# Altium schematic symbol library vMemory.SCHLIB: 66 symbols
Pins are listed as number, name and electrical type; pins without a type are passive.

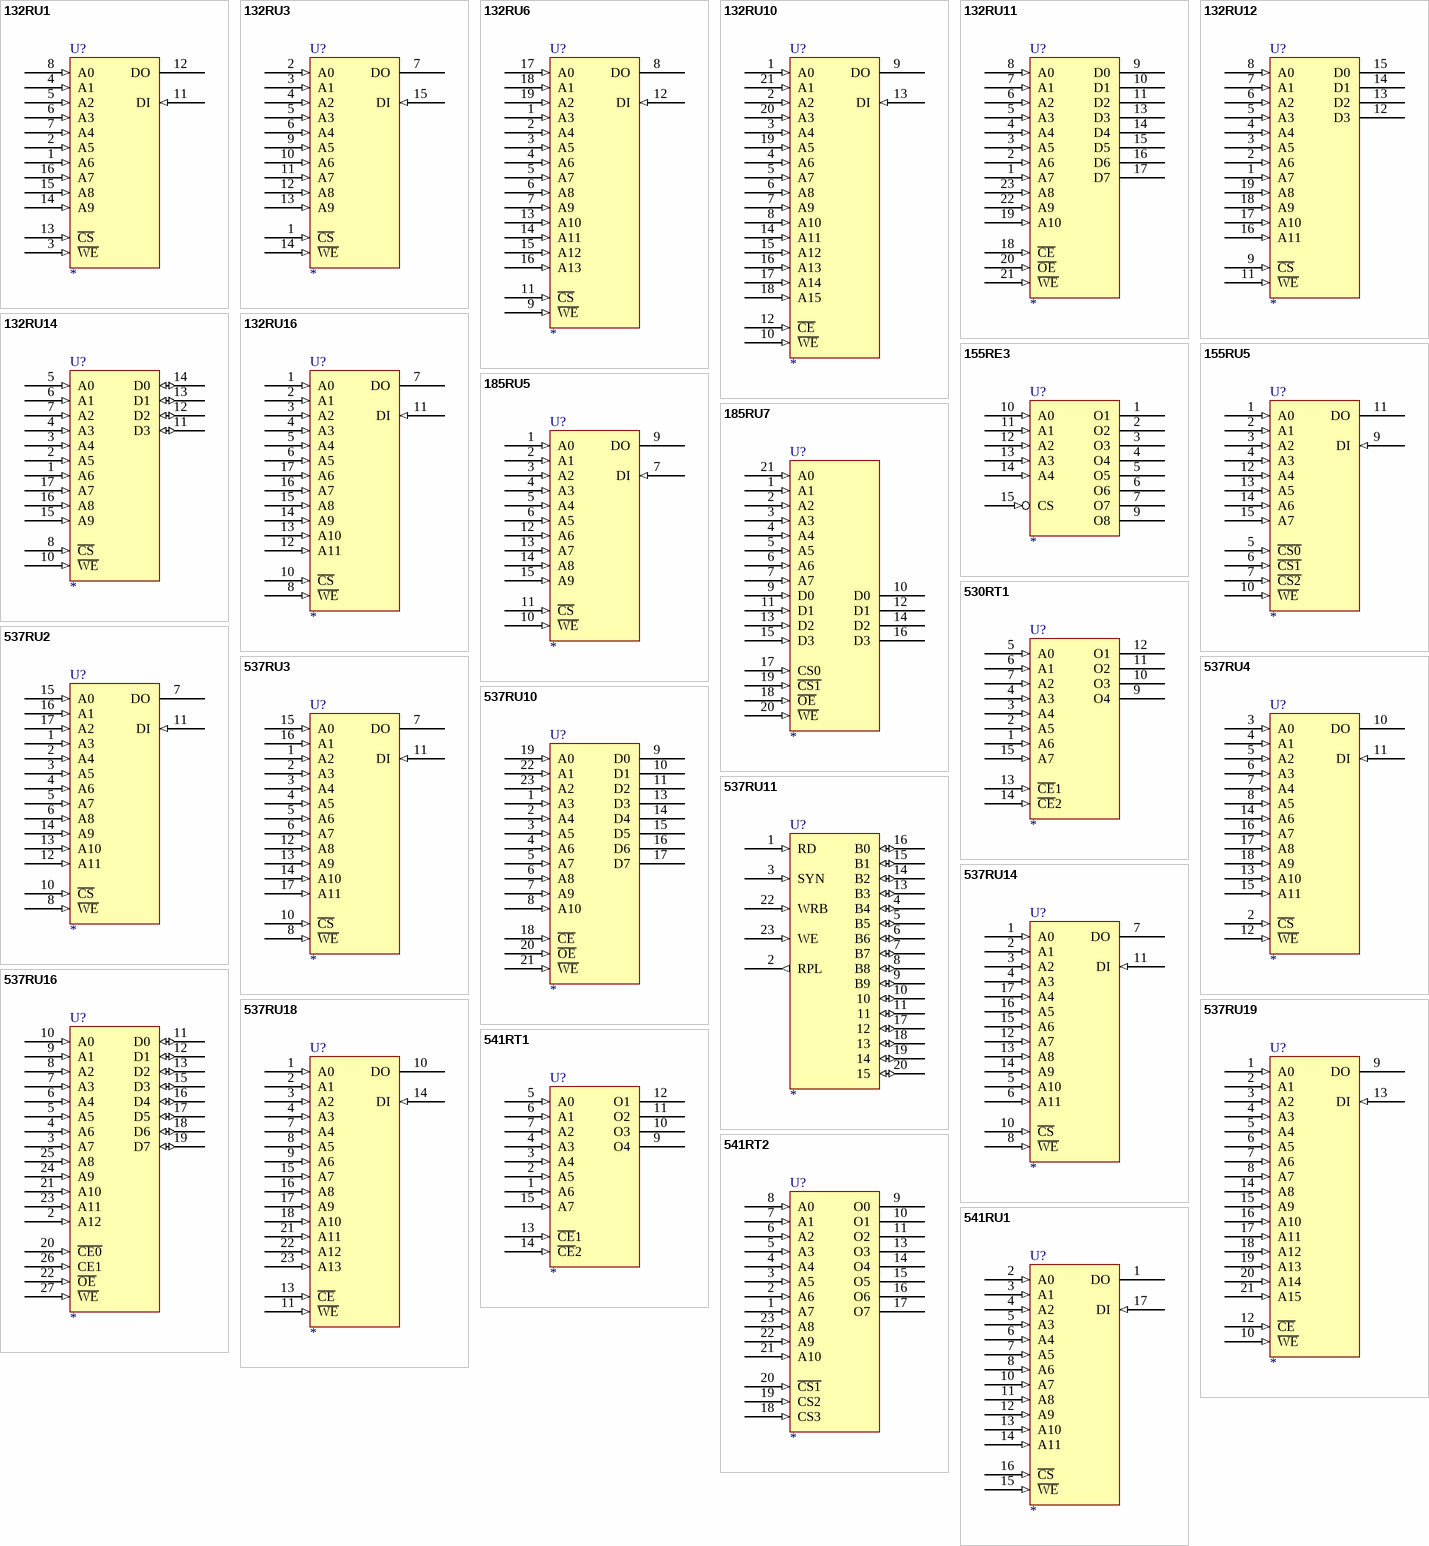
[diagram p0: symbols 132RU1 to 541RU1]

## 132RU1
designator U?
Text Field1: 60; Text Field2: 140
pins: 1 A6 (in), 2 A5 (in), 3 ~{WE} (in), 4 A1 (in), 5 A2 (in), 6 A3 (in), 7 A4 (in), 8 A0 (in), 9 GND (power) hidden to GND, 10 VCC (power) hidden to VCC, 11 DI (in), 12 DO (hiz), 13 ~{CS} (in), 14 A9 (in), 15 A8 (in), 16 A7 (in)

## 132RU3
designator U?
Text Field1: 60; Text Field2: 140
pins: 1 ~{CS} (in), 2 A0 (in), 3 A1 (in), 4 A2 (in), 5 A3 (in), 6 A4 (in), 7 DO (hiz), 8 GND (power) hidden to GND, 9 A5 (in), 10 A6 (in), 11 A7 (in), 12 A8 (in), 13 A9 (in), 14 ~{WE} (in), 15 DI (in), 16 VCC (power) hidden to VCC

## 132RU6
designator U?
Text Field1: 60; Text Field2: 180
pins: 1 A3 (in), 2 A4 (in), 3 A5 (in), 4 A6 (in), 5 A7 (in), 6 A8 (in), 7 A9 (in), 8 DO (hiz), 9 ~{WE} (in), 10 GND (power) hidden to GND, 11 ~{CS} (in), 12 DI (in), 13 A10 (in), 14 A11 (in), 15 A12 (in), 16 A13 (in), 17 A0 (in), 18 A1 (in), 19 A2 (in), 20 VCC (power) hidden to VCC

## 132RU10
designator U?
Text Field1: 60; Text Field2: 200
pins: 1 A0 (in), 2 A2 (in), 3 A4 (in), 4 A6 (in), 5 A7 (in), 6 A8 (in), 7 A9 (in), 8 A10 (in), 9 DO (hiz), 10 ~{WE} (in), 11 GND (power) hidden to GND, 12 ~{CE} (in), 13 DI (in), 14 A11 (in), 15 A12 (in), 16 A13 (in), 17 A14 (in), 18 A15 (in), 19 A5 (in), 20 A3 (in), 21 A1 (in), 22 VCC (power) hidden to VCC

## 132RU11
designator U?
Text Field1: 60; Text Field2: 160
pins: 1 A7 (in), 2 A6 (in), 3 A5 (in), 4 A4 (in), 5 A3 (in), 6 A2 (in), 7 A1 (in), 8 A0 (in), 9 D0 (hiz), 10 D1 (hiz), 11 D2 (hiz), 12 GND (power) hidden to GND, 13 D3 (hiz), 14 D4 (hiz), 15 D5 (hiz), 16 D6 (hiz), 17 D7 (hiz), 18 ~{CE} (in), 19 A10 (in), 20 ~{OE} (in), 21 ~{WE} (in), 22 A9 (in), 23 A8 (in), 24 VCC (power) hidden to VCC

## 132RU12
designator U?
Text Field1: 60; Text Field2: 160
pins: 1 A7 (in), 2 A6 (in), 3 A5 (in), 4 A4 (in), 5 A3 (in), 6 A2 (in), 7 A1 (in), 8 A0 (in), 9 ~{CS} (in), 10 GND (power) hidden to GND, 11 ~{WE} (in), 12 D3 (hiz), 13 D2 (hiz), 14 D1 (hiz), 15 D0 (hiz), 16 A11 (in), 17 A10 (in), 18 A9 (in), 19 A8 (in), 20 VCC (power) hidden to VCC

## 132RU14
designator U?
Text Field1: 60; Text Field2: 140
pins: 1 A6 (in), 2 A5 (in), 3 A4 (in), 4 A3 (in), 5 A0 (in), 6 A1 (in), 7 A2 (in), 8 ~{CS} (in), 9 GND (power) hidden to GND, 10 ~{WE} (in), 11 D3 (io), 12 D2 (io), 13 D1 (io), 14 D0 (io), 15 A9 (in), 16 A8 (in), 17 A7 (in), 18 VCC (power) hidden to VCC

## 132RU16
designator U?
Text Field1: 60; Text Field2: 160
pins: 1 A0 (in), 2 A1 (in), 3 A2 (in), 4 A3 (in), 5 A4 (in), 6 A5 (in), 7 DO (hiz), 8 ~{WE} (in), 9 GND (power) hidden to GND, 10 ~{CS} (in), 11 DI (in), 12 A11 (in), 13 A10 (in), 14 A9 (in), 15 A8 (in), 16 A7 (in), 17 A6 (in), 18 VCC (power) hidden to VCC

## 155RE3
designator U?
Text Field1: 60; Text Field2: 90
pins: 1 O1 (oc), 2 O2 (oc), 3 O3 (oc), 4 O4 (oc), 5 O5 (oc), 6 O6 (oc), 7 O7 (oc), 8 GND (power) hidden to GND, 9 O8 (oc), 10 A0 (in), 11 A1 (in), 12 A2 (in), 13 A3 (in), 14 A4 (in), 15 CS (in), 16 +5V (power) hidden to +5V

## 155RU5
designator U?
Text Field1: 60; Text Field2: 140
pins: 1 A0 (in), 2 A1 (in), 3 A2 (in), 4 A3 (in), 5 ~{CS0} (in), 6 ~{CS1} (in), 7 ~{CS2} (in), 8 GND (power) hidden to GND, 9 DI (in), 10 ~{WE} (in), 11 DO (oc), 12 A4 (in), 13 A5 (in), 14 A6 (in), 15 A7 (in), 16 VCC (power) hidden to VCC

## 185RU5
designator U?
Text Field1: 60; Text Field2: 140
pins: 1 A0 (in), 2 A1 (in), 3 A2 (in), 4 A3 (in), 5 A4 (in), 6 A5 (in), 7 DI (in), 8 GND (power) hidden to GND, 9 DO (oc), 10 ~{WE} (in), 11 ~{CS} (in), 12 A6 (in), 13 A7 (in), 14 A8 (in), 15 A9 (in), 16 VCC (power) hidden to VCC

## 185RU7
designator U?
Text Field1: 60; Text Field2: 180
pins: 1 A1 (in), 2 A2 (in), 3 A3 (in), 4 A4 (in), 5 A5 (in), 6 A6 (in), 7 A7 (in), 8 GND (power) hidden to GND, 9 D0 (in), 10 D0 (hiz), 11 D1 (in), 12 D1 (hiz), 13 D2 (in), 14 D2 (hiz), 15 D3 (in), 16 D3 (hiz), 17 CS0 (in), 18 ~{OE} (in), 19 ~{CS1} (in), 20 ~{WE} (in), 21 A0 (in), 22 VCC (power) hidden to VCC

## 530RT1
designator U?
Text Field1: 60; Text Field2: 120
pins: 1 A6 (in), 2 A5 (in), 3 A4 (in), 4 A3 (in), 5 A0 (in), 6 A1 (in), 7 A2 (in), 8 GND (power) hidden to GND, 9 O4 (oc), 10 O3 (oc), 11 O2 (oc), 12 O1 (oc), 13 ~{CE}1 (in), 14 ~{CE}2 (in), 15 A7 (in), 16 VCC (power) hidden to VCC

## 537RU2
designator U?
Text Field1: 60; Text Field2: 160
pins: 1 A3 (in), 2 A4 (in), 3 A5 (in), 4 A6 (in), 5 A7 (in), 6 A8 (in), 7 DO (hiz), 8 ~{WE} (in), 9 GND (power) hidden to GND, 10 ~{CS} (in), 11 DI (in), 12 A11 (in), 13 A10 (in), 14 A9 (in), 15 A0 (in), 16 A1 (in), 17 A2 (in), 18 +5V (power) hidden to +5V

## 537RU3
designator U?
Text Field1: 60; Text Field2: 160
pins: 1 A2 (in), 2 A3 (in), 3 A4 (in), 4 A5 (in), 5 A6 (in), 6 A7 (in), 7 DO (hiz), 8 ~{WE} (in), 9 GND (power) hidden to GND, 10 ~{CS} (in), 11 DI (in), 12 A8 (in), 13 A9 (in), 14 A10 (in), 15 A0 (in), 16 A1 (in), 17 A11 (in), 18 +5V (power) hidden to +5V

## 537RU4
designator U?
Text Field1: 60; Text Field2: 160
pins: 1 GND (power) hidden to GND, 2 ~{CS} (in), 3 A0 (in), 4 A1 (in), 5 A2 (in), 6 A3 (in), 7 A4 (in), 8 A5 (in), 9 +5V (power) hidden to +5V, 10 DO (hiz), 11 DI (in), 12 ~{WE} (in), 13 A10 (in), 14 A6 (in), 15 A11 (in), 16 A7 (in), 17 A8 (in), 18 A9 (in)

## 537RU10
designator U?
Text Field1: 60; Text Field2: 160
pins: 1 A3 (in), 2 A4 (in), 3 A5 (in), 4 A6 (in), 5 A7 (in), 6 A8 (in), 7 A9 (in), 8 A10 (in), 9 D0 (hiz), 10 D1 (hiz), 11 D2 (hiz), 12 GND (power) hidden to GND, 13 D3 (hiz), 14 D4 (hiz), 15 D5 (hiz), 16 D6 (hiz), 17 D7 (hiz), 18 ~{CE} (in), 19 A0 (in), 20 ~{OE} (in), 21 ~{WE} (in), 22 A1 (in), 23 A2 (in), 24 +5V (power) hidden to +5V

## 537RU11
designator U?
Text Field1: 60; Text Field2: 170
pins: 1 RD (in), 2 RPL (out), 3 SYN (in), 4 B4 (io), 5 B5 (io), 6 B6 (io), 7 B7 (io), 8 B8 (io), 9 B9 (io), 10 (io), 11 (io), 12 GND (power) hidden to GND, 13 B3 (io), 14 B2 (io), 15 B1 (io), 16 B0 (io), 17 12 (io), 18 13 (io), 19 14 (io), 20 15 (io), 22 WRB (in), 23 WE (in), 24 +5V (power) hidden to +5V

## 537RU14
designator U?
Text Field1: 60; Text Field2: 160
pins: 1 A0 (in), 2 A1 (in), 3 A2 (in), 4 A3 (in), 5 A10 (in), 6 A11 (in), 7 DO (hiz), 8 ~{WE} (in), 9 GND (power) hidden to GND, 10 ~{CS} (in), 11 DI (in), 12 A7 (in), 13 A8 (in), 14 A9 (in), 15 A6 (in), 16 A5 (in), 17 A4 (in), 18 VCC (power) hidden to VCC

## 537RU16
designator U?
Text Field1: 60; Text Field2: 190
pins: 2 A12 (in), 3 A7 (in), 4 A6 (in), 5 A5 (in), 6 A4 (in), 7 A3 (in), 8 A2 (in), 9 A1 (in), 10 A0 (in), 11 D0 (io), 12 D1 (io), 13 D2 (io), 14 GND (power) hidden to GND, 15 D3 (io), 16 D4 (io), 17 D5 (io), 18 D6 (io), 19 D7 (io), 20 ~{CE0} (in), 21 A10 (in), 22 ~{OE} (in), 23 A11 (in), 24 A9 (in), 25 A8 (in), 26 CE1 (in), 27 ~{WE} (in), 28 VCC (power) hidden to VCC

## 537RU18
designator U?
Text Field1: 60; Text Field2: 180
pins: 1 A0 (in), 2 A1 (in), 3 A2 (in), 4 A3 (in), 7 A4 (in), 8 A5 (in), 9 A6 (in), 10 DO (hiz), 11 ~{WE} (in), 12 GND (power) hidden to GND, 13 ~{CE} (in), 14 DI (in), 15 A7 (in), 16 A8 (in), 17 A9 (in), 18 A10 (in), 21 A11 (in), 22 A12 (in), 23 A13 (in), 24 VCC (power) hidden to VCC

## 537RU19
designator U?
Text Field1: 60; Text Field2: 200
pins: 1 A0 (in), 2 A1 (in), 3 A2 (in), 4 A3 (in), 5 A4 (in), 6 A5 (in), 7 A6 (in), 8 A7 (in), 9 DO (hiz), 10 ~{WE} (in), 11 GND (power) hidden to GND, 12 ~{CE} (in), 13 DI (in), 14 A8 (in), 15 A9 (in), 16 A10 (in), 17 A11 (in), 18 A12 (in), 19 A13 (in), 20 A14 (in), 21 A15 (in), 22 VCC (power) hidden to VCC

## 541RT1
designator U?
Text Field1: 60; Text Field2: 120
pins: 1 A6 (in), 2 A5 (in), 3 A4 (in), 4 A3 (in), 5 A0 (in), 6 A1 (in), 7 A2 (in), 8 GND (power) hidden to GND, 9 O4 (oc), 10 O3 (oc), 11 O2 (oc), 12 O1 (oc), 13 ~{CE}1 (in), 14 ~{CE}2 (in), 15 A7 (in), 16 VCC (power) hidden to VCC

## 541RT2
designator U?
Text Field1: 60; Text Field2: 160
pins: 1 A7 (in), 2 A6 (in), 3 A5 (in), 4 A4 (in), 5 A3 (in), 6 A2 (in), 7 A1 (in), 8 A0 (in), 9 O0 (hiz), 10 O1 (hiz), 11 O2 (hiz), 12 GND (power) hidden to GND, 13 O3 (hiz), 14 O4 (hiz), 15 O5 (hiz), 16 O6 (hiz), 17 O7 (hiz), 18 CS3 (in), 19 CS2 (in), 20 ~{CS1} (in), 21 A10 (in), 22 A9 (in), 23 A8 (in), 24 VCC (power) hidden to VCC

## 541RU1
designator U?
Text Field1: 60; Text Field2: 160
pins: 1 DO (hiz), 2 A0 (in), 3 A1 (in), 4 A2 (in), 5 A3 (in), 6 A4 (in), 7 A5 (in), 8 A6 (in), 9 GND (power) hidden to GND, 10 A7 (in), 11 A8 (in), 12 A9 (in), 13 A10 (in), 14 A11 (in), 15 ~{WE} (in), 16 ~{CS} (in), 17 DI (in), 18 VCC (power) hidden to VCC

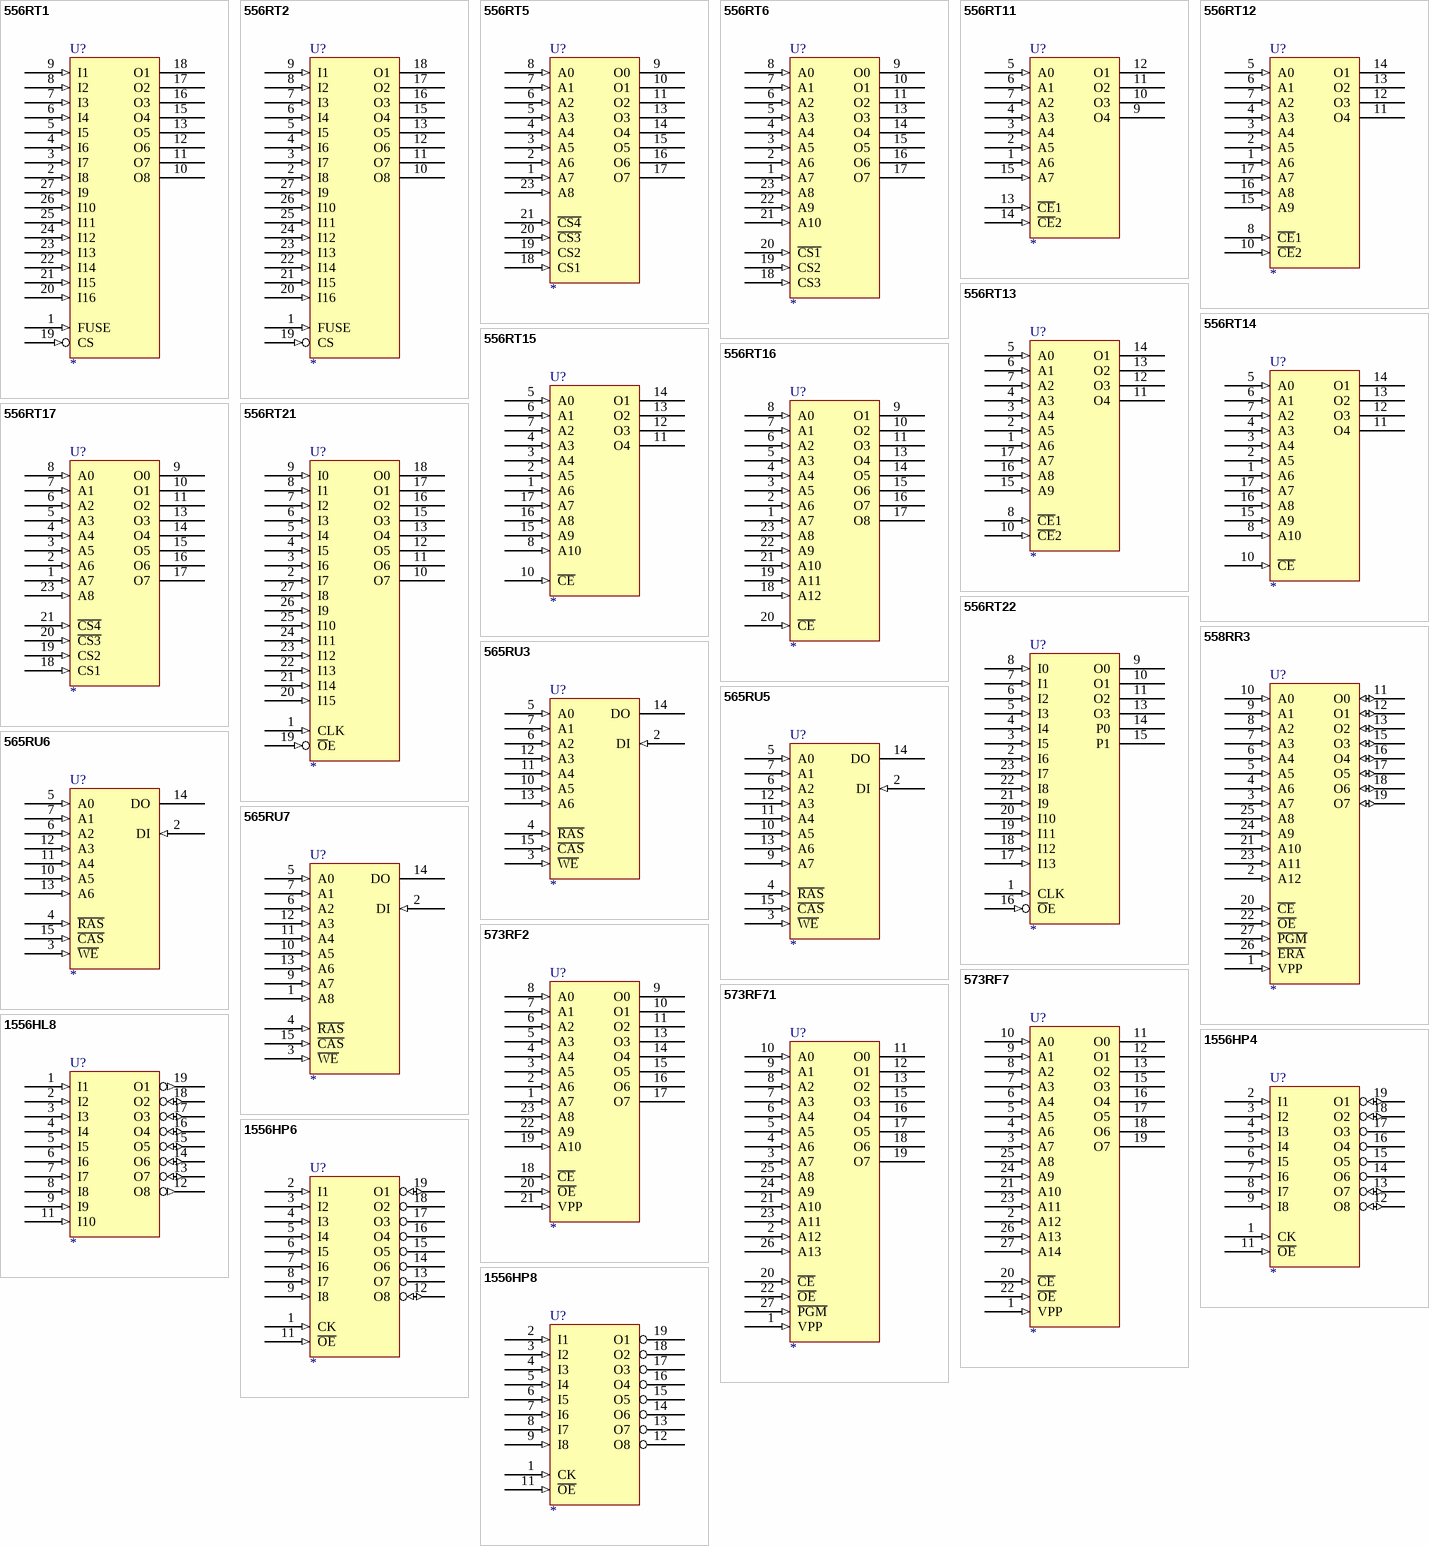
[diagram p1: symbols 556RT1 to 1556HP8]

## 556RT1
designator U?
Text Field1: 60; Text Field2: 200
pins: 1 FUSE (in), 2 I8 (in), 3 I7 (in), 4 I6 (in), 5 I5 (in), 6 I4 (in), 7 I3 (in), 8 I2 (in), 9 I1 (in), 10 O8 (oc), 11 O7 (oc), 12 O6 (oc), 13 O5 (oc), 14 GND (power) hidden to GND, 15 O4 (oc), 16 O3 (oc), 17 O2 (oc), 18 O1 (oc), 19 CS (in), 20 I16 (in), 21 I15 (in), 22 I14 (in), 23 I13 (in), 24 I12 (in), 25 I11 (in), 26 I10 (in), 27 I9 (in), 28 +5V (power) hidden to +5V

## 556RT2
designator U?
Text Field1: 60; Text Field2: 200
pins: 1 FUSE (in), 2 I8 (in), 3 I7 (in), 4 I6 (in), 5 I5 (in), 6 I4 (in), 7 I3 (in), 8 I2 (in), 9 I1 (in), 10 O8 (hiz), 11 O7 (hiz), 12 O6 (hiz), 13 O5 (hiz), 14 GND (power) hidden to GND, 15 O4 (hiz), 16 O3 (hiz), 17 O2 (hiz), 18 O1 (hiz), 19 CS (in), 20 I16 (in), 21 I15 (in), 22 I14 (in), 23 I13 (in), 24 I12 (in), 25 I11 (in), 26 I10 (in), 27 I9 (in), 28 +5V (power) hidden to +5V

## 556RT5
designator U?
Text Field1: 60; Text Field2: 150
pins: 1 A7 (in), 2 A6 (in), 3 A5 (in), 4 A4 (in), 5 A3 (in), 6 A2 (in), 7 A1 (in), 8 A0 (in), 9 O0 (oc), 10 O1 (oc), 11 O2 (oc), 12 GND (power) hidden to GND, 13 O3 (oc), 14 O4 (oc), 15 O5 (oc), 16 O6 (oc), 17 O7 (oc), 18 CS1 (in), 19 CS2 (in), 20 ~{CS3} (in), 21 ~{CS4} (in), 23 A8 (in), 24 VCC (power) hidden to VCC

## 556RT6
designator U?
Text Field1: 60; Text Field2: 160
pins: 1 A7 (in), 2 A6 (in), 3 A5 (in), 4 A4 (in), 5 A3 (in), 6 A2 (in), 7 A1 (in), 8 A0 (in), 9 O0 (oc), 10 O1 (oc), 11 O2 (oc), 12 GND (power) hidden to GND, 13 O3 (oc), 14 O4 (oc), 15 O5 (oc), 16 O6 (oc), 17 O7 (oc), 18 CS3 (in), 19 CS2 (in), 20 ~{CS1} (in), 21 A10 (in), 22 A9 (in), 23 A8 (in), 24 VCC (power) hidden to VCC

## 556RT11
designator U?
Text Field1: 60; Text Field2: 120
pins: 1 A6 (in), 2 A5 (in), 3 A4 (in), 4 A3 (in), 5 A0 (in), 6 A1 (in), 7 A2 (in), 8 GND (power) hidden to GND, 9 O4 (hiz), 10 O3 (hiz), 11 O2 (hiz), 12 O1 (hiz), 13 ~{CE}1 (in), 14 ~{CE}2 (in), 15 A7 (in), 16 VCC (power) hidden to VCC

## 556RT12
designator U?
Text Field1: 60; Text Field2: 140
pins: 1 A6 (in), 2 A5 (in), 3 A4 (in), 4 A3 (in), 5 A0 (in), 6 A1 (in), 7 A2 (in), 8 ~{CE}1 (in), 9 GND (power) hidden to GND, 10 ~{CE}2 (in), 11 O4 (oc), 12 O3 (oc), 13 O2 (oc), 14 O1 (oc), 15 A9 (in), 16 A8 (in), 17 A7 (in), 18 VCC (power) hidden to VCC

## 556RT13
designator U?
Text Field1: 60; Text Field2: 140
pins: 1 A6 (in), 2 A5 (in), 3 A4 (in), 4 A3 (in), 5 A0 (in), 6 A1 (in), 7 A2 (in), 8 ~{CE}1 (in), 9 GND (power) hidden to GND, 10 ~{CE}2 (in), 11 O4 (hiz), 12 O3 (hiz), 13 O2 (hiz), 14 O1 (hiz), 15 A9 (in), 16 A8 (in), 17 A7 (in), 18 VCC (power) hidden to VCC

## 556RT14
designator U?
Text Field1: 60; Text Field2: 140
pins: 1 A6 (in), 2 A5 (in), 3 A4 (in), 4 A3 (in), 5 A0 (in), 6 A1 (in), 7 A2 (in), 8 A10 (in), 9 GND (power) hidden to GND, 10 ~{CE} (in), 11 O4 (oc), 12 O3 (oc), 13 O2 (oc), 14 O1 (oc), 15 A9 (in), 16 A8 (in), 17 A7 (in), 18 VCC (power) hidden to VCC

## 556RT15
designator U?
Text Field1: 60; Text Field2: 140
pins: 1 A6 (in), 2 A5 (in), 3 A4 (in), 4 A3 (in), 5 A0 (in), 6 A1 (in), 7 A2 (in), 8 A10 (in), 9 GND (power) hidden to GND, 10 ~{CE} (in), 11 O4 (hiz), 12 O3 (hiz), 13 O2 (hiz), 14 O1 (hiz), 15 A9 (in), 16 A8 (in), 17 A7 (in), 18 VCC (power) hidden to VCC

## 556RT16
designator U?
Text Field1: 60; Text Field2: 160
pins: 1 A7 (in), 2 A6 (in), 3 A5 (in), 4 A4 (in), 5 A3 (in), 6 A2 (in), 7 A1 (in), 8 A0 (in), 9 O1 (hiz), 10 O2 (hiz), 11 O3 (hiz), 12 GND (power) hidden to GND, 13 O4 (hiz), 14 O5 (hiz), 15 O6 (hiz), 16 O7 (hiz), 17 O8 (hiz), 18 A12 (in), 19 A11 (in), 20 ~{CE} (in), 21 A10 (in), 22 A9 (in), 23 A8 (in), 24 VCC (power) hidden to VCC

## 556RT17
designator U?
Text Field1: 60; Text Field2: 150
pins: 1 A7 (in), 2 A6 (in), 3 A5 (in), 4 A4 (in), 5 A3 (in), 6 A2 (in), 7 A1 (in), 8 A0 (in), 9 O0 (hiz), 10 O1 (hiz), 11 O2 (hiz), 13 O3 (hiz), 14 O4 (hiz), 15 O5 (hiz), 16 O6 (hiz), 17 O7 (hiz), 18 CS1 (in), 19 CS2 (in), 20 ~{CS3} (in), 21 ~{CS4} (in), 23 A8 (in)

## 556RT21
designator U?
Text Field1: 60; Text Field2: 200
pins: 1 CLK (in), 2 I7 (in), 3 I6 (in), 4 I5 (in), 5 I4 (in), 6 I3 (in), 7 I2 (in), 8 I1 (in), 9 I0 (in), 10 O7 (hiz), 11 O6 (hiz), 12 O5 (hiz), 13 O4 (hiz), 14 GND (power) hidden to GND, 15 O3 (hiz), 16 O2 (hiz), 17 O1 (hiz), 18 O0 (hiz), 19 ~{O}E (in), 20 I15 (in), 21 I14 (in), 22 I13 (in), 23 I12 (in), 24 I11 (in), 25 I10 (in), 26 I9 (in), 27 I8 (in), 28 VCC (power) hidden to VCC

## 556RT22
designator U?
Text Field1: 60; Text Field2: 180
pins: 1 CLK (in), 2 I6 (in), 3 I5 (in), 4 I4 (in), 5 I3 (in), 6 I2 (in), 7 I1 (in), 8 I0 (in), 9 O0 (hiz), 10 O1 (hiz), 11 O2 (hiz), 12 GND (power) hidden to GND, 13 O3 (hiz), 14 P0 (hiz), 15 P1 (hiz), 16 ~{O}E (in), 17 I13 (in), 18 I12 (in), 19 I11 (in), 20 I10 (in), 21 I9 (in), 22 I8 (in), 23 I7 (in), 24 VCC (power) hidden to VCC

## 558RR3
designator U?
Text Field1: 60; Text Field2: 200
pins: 1 VPP (in), 2 A12 (in), 3 A7 (in), 4 A6 (in), 5 A5 (in), 6 A4 (in), 7 A3 (in), 8 A2 (in), 9 A1 (in), 10 A0 (in), 11 O0 (io), 12 O1 (io), 13 O2 (io), 14 GND (power) hidden to GND, 15 O3 (io), 16 O4 (io), 17 O5 (io), 18 O6 (io), 19 O7 (io), 20 ~{CE} (in), 21 A10 (in), 22 ~{OE} (in), 23 A11 (in), 24 A9 (in), 25 A8 (in), 26 ~{ERA} (in), 27 ~{PGM} (in), 28 VCC (power) hidden to VCC

## 565RU3
designator U?
Text Field1: 60; Text Field2: 120
pins: 1 V-5 (power) hidden to V-5, 2 DI (in), 3 ~{WE} (in), 4 ~{RAS} (in), 5 A0 (in), 6 A2 (in), 7 A1 (in), 8 V+12 (power) hidden to V+12, 9 VCC (power) hidden to VCC, 10 A5 (in), 11 A4 (in), 12 A3 (in), 13 A6 (in), 14 DO (hiz), 15 ~{CAS} (in), 16 GND (power) hidden to GND

## 565RU5
designator U?
Text Field1: 60; Text Field2: 130
pins: 2 DI (in), 3 ~{WE} (in), 4 ~{RAS} (in), 5 A0 (in), 6 A2 (in), 7 A1 (in), 8 VCC (power) hidden to VCC, 9 A7 (in), 10 A5 (in), 11 A4 (in), 12 A3 (in), 13 A6 (in), 14 DO (hiz), 15 ~{CAS} (in), 16 GND (power) hidden to GND

## 565RU6
designator U?
Text Field1: 60; Text Field2: 120
pins: 2 DI (in), 3 ~{WE} (in), 4 ~{RAS} (in), 5 A0 (in), 6 A2 (in), 7 A1 (in), 8 VCC (power) hidden to VCC, 10 A5 (in), 11 A4 (in), 12 A3 (in), 13 A6 (in), 14 DO (hiz), 15 ~{CAS} (in), 16 GND (power) hidden to GND

## 565RU7
designator U?
Text Field1: 60; Text Field2: 140
pins: 1 A8 (in), 2 DI (in), 3 ~{WE} (in), 4 ~{RAS} (in), 5 A0 (in), 6 A2 (in), 7 A1 (in), 8 VCC (power) hidden to VCC, 9 A7 (in), 10 A5 (in), 11 A4 (in), 12 A3 (in), 13 A6 (in), 14 DO (hiz), 15 ~{CAS} (in), 16 GND (power) hidden to GND

## 573RF2
designator U?
Text Field1: 60; Text Field2: 160
pins: 1 A7 (in), 2 A6 (in), 3 A5 (in), 4 A4 (in), 5 A3 (in), 6 A2 (in), 7 A1 (in), 8 A0 (in), 9 O0 (hiz), 10 O1 (hiz), 11 O2 (hiz), 12 GND (power) hidden to GND, 13 O3 (hiz), 14 O4 (hiz), 15 O5 (hiz), 16 O6 (hiz), 17 O7 (hiz), 18 ~{CE} (in), 19 A10 (in), 20 ~{OE} (in), 21 VPP (in), 22 A9 (in), 23 A8 (in), 24 VCC (power) hidden to VCC

## 573RF7
designator U?
Text Field1: 60; Text Field2: 200
pins: 1 VPP (in), 2 A12 (in), 3 A7 (in), 4 A6 (in), 5 A5 (in), 6 A4 (in), 7 A3 (in), 8 A2 (in), 9 A1 (in), 10 A0 (in), 11 O0 (hiz), 12 O1 (hiz), 13 O2 (hiz), 14 GND (power) hidden to GND, 15 O3 (hiz), 16 O4 (hiz), 17 O5 (hiz), 18 O6 (hiz), 19 O7 (hiz), 20 ~{CE} (in), 21 A10 (in), 22 ~{OE} (in), 23 A11 (in), 24 A9 (in), 25 A8 (in), 26 A13 (in), 27 A14 (in), 28 VCC (power) hidden to VCC

## 573RF71
designator U?
Text Field1: 60; Text Field2: 200
pins: 1 VPP (in), 2 A12 (in), 3 A7 (in), 4 A6 (in), 5 A5 (in), 6 A4 (in), 7 A3 (in), 8 A2 (in), 9 A1 (in), 10 A0 (in), 11 O0 (hiz), 12 O1 (hiz), 13 O2 (hiz), 14 GND (power) hidden to GND, 15 O3 (hiz), 16 O4 (hiz), 17 O5 (hiz), 18 O6 (hiz), 19 O7 (hiz), 20 ~{CE} (in), 21 A10 (in), 22 ~{OE} (in), 23 A11 (in), 24 A9 (in), 25 A8 (in), 26 A13 (in), 27 ~{PGM} (in), 28 VCC (power) hidden to VCC

## 1556HL8
designator U?
Text Field1: 60; Text Field2: 110
pins: 1 I1 (in), 2 I2 (in), 3 I3 (in), 4 I4 (in), 5 I5 (in), 6 I6 (in), 7 I7 (in), 8 I8 (in), 9 I9 (in), 10 GND (power) hidden to GND, 11 I10 (in), 12 O8 (out), 13 O7 (io), 14 O6 (io), 15 O5 (io), 16 O4 (io), 17 O3 (io), 18 O2 (io), 19 O1 (out), 20 VCC (power) hidden to VCC

## 1556HP4
designator U?
Text Field1: 60; Text Field2: 120
pins: 1 CK (in), 2 I1 (in), 3 I2 (in), 4 I3 (in), 5 I4 (in), 6 I5 (in), 7 I6 (in), 8 I7 (in), 9 I8 (in), 10 GND (power) hidden to GND, 11 ~{OE} (in), 12 O8 (io), 13 O7 (io), 14 O6 (hiz), 15 O5 (hiz), 16 O4 (hiz), 17 O3 (hiz), 18 O2 (io), 19 O1 (io), 20 VCC (power) hidden to VCC

## 1556HP6
designator U?
Text Field1: 60; Text Field2: 120
pins: 1 CK (in), 2 I1 (in), 3 I2 (in), 4 I3 (in), 5 I4 (in), 6 I5 (in), 7 I6 (in), 8 I7 (in), 9 I8 (in), 10 GND (power) hidden to GND, 11 ~{OE} (in), 12 O8 (io), 13 O7 (hiz), 14 O6 (hiz), 15 O5 (hiz), 16 O4 (hiz), 17 O3 (hiz), 18 O2 (hiz), 19 O1 (io), 20 VCC (power) hidden to VCC

## 1556HP8
designator U?
Text Field1: 60; Text Field2: 120
pins: 1 CK (in), 2 I1 (in), 3 I2 (in), 4 I3 (in), 5 I4 (in), 6 I5 (in), 7 I6 (in), 8 I7 (in), 9 I8 (in), 10 GND (power) hidden to GND, 11 ~{OE} (in), 12 O8 (hiz), 13 O7 (hiz), 14 O6 (hiz), 15 O5 (hiz), 16 O4 (hiz), 17 O3 (hiz), 18 O2 (hiz), 19 O1 (hiz), 20 VCC (power) hidden to VCC

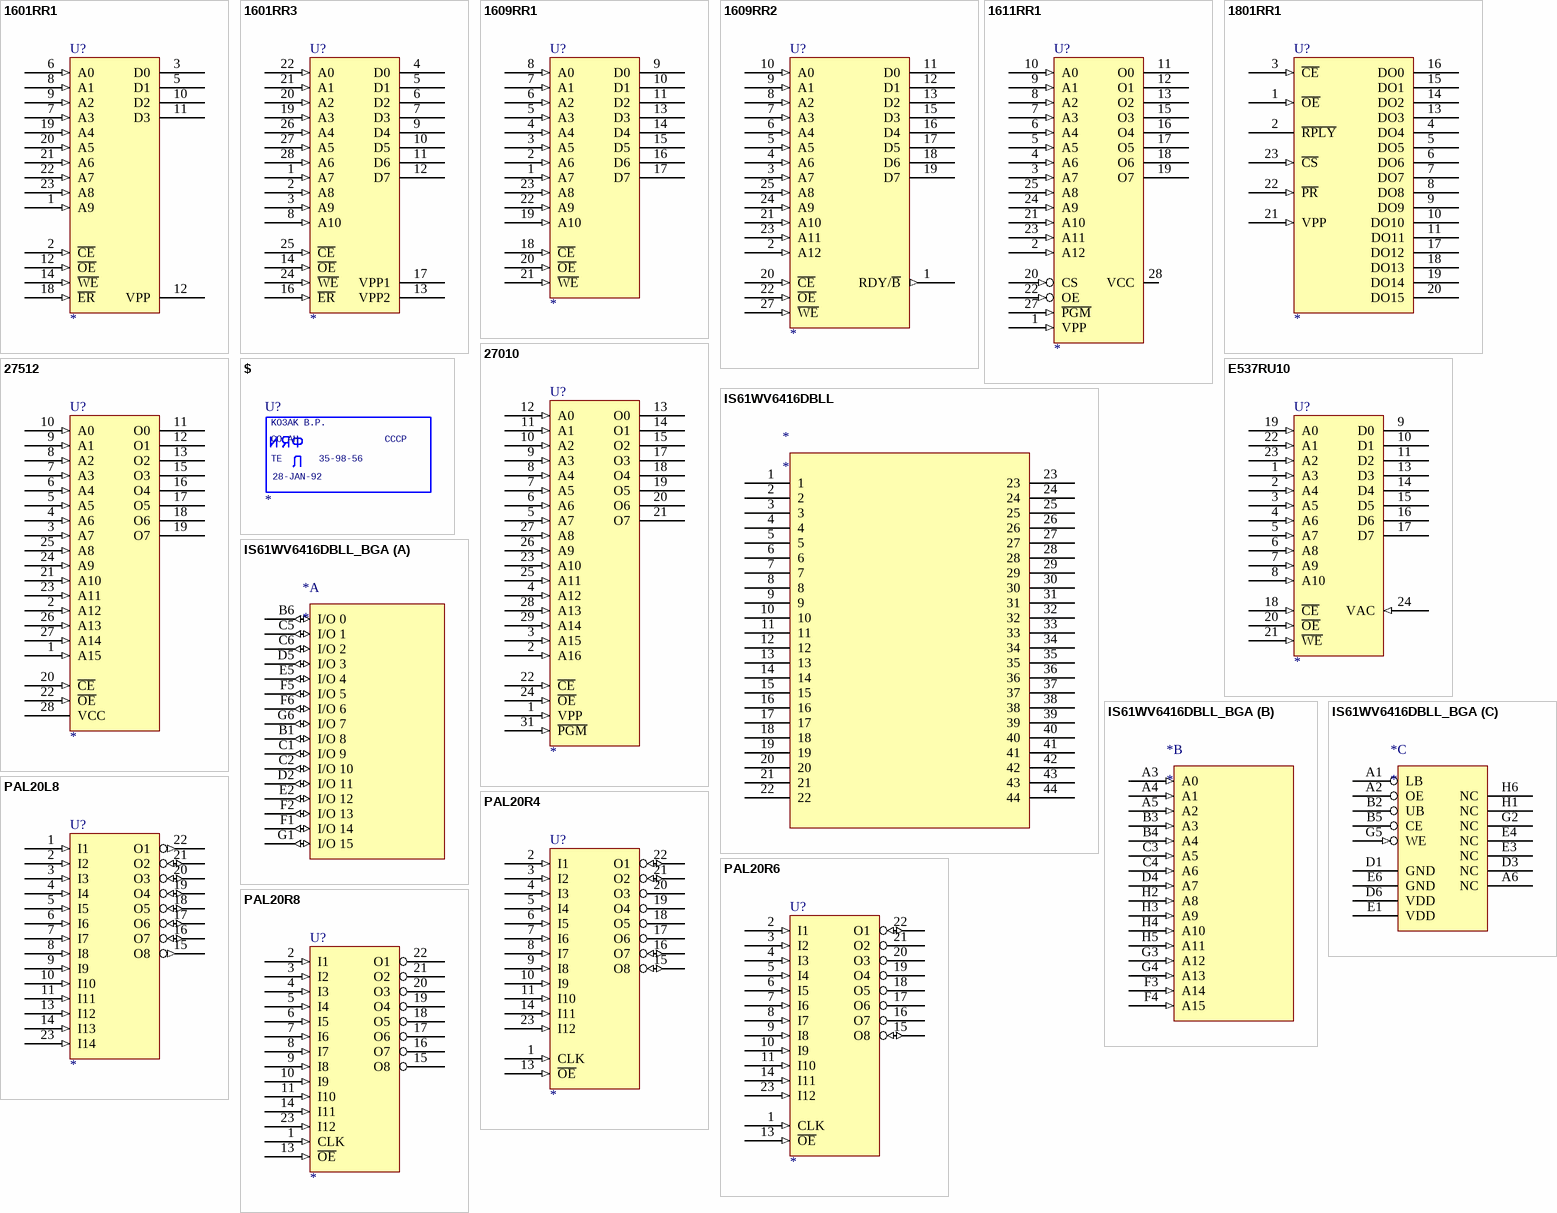
[diagram p2: symbols 1601RR1 to PAL20R8]

## 1601RR1
designator U?
Text Field1: 60; Text Field2: 170
pins: 1 A9 (in), 2 ~{CE} (in), 3 D0 (hiz), 4 GND (power) hidden to GND, 5 D1 (hiz), 6 A0 (in), 7 A3 (in), 8 A1 (in), 9 A2 (in), 10 D2 (hiz), 11 D3 (hiz), 12 ~{OE} (in), 12 VPP, 14 ~{WE} (in), 18 ~{ER} (in), 19 A4 (in), 20 A5 (in), 21 A6 (in), 22 A7 (in), 23 A8 (in), 24 VCC (power) hidden to VCC

## 1601RR3
designator U?
Text Field1: 60; Text Field2: 170
pins: 1 A7 (in), 2 A8 (in), 3 A9 (in), 4 D0 (hiz), 5 D1 (hiz), 6 D2 (hiz), 7 D3 (hiz), 8 A10 (in), 9 D4 (hiz), 10 D5 (hiz), 11 D6 (hiz), 12 D7 (hiz), 13 VPP2, 14 ~{OE} (in), 16 ~{ER} (in), 17 VPP1, 19 A3 (in), 20 A2 (in), 21 A1 (in), 22 A0 (in), 23 GND (power) hidden to GND, 24 ~{WE} (in), 25 ~{CE} (in), 26 A4 (in), 27 A5 (in), 28 A6 (in)

## 1609RR1
designator U?
Text Field1: 60; Text Field2: 160
pins: 1 A7 (in), 2 A6 (in), 3 A5 (in), 4 A4 (in), 5 A3 (in), 6 A2 (in), 7 A1 (in), 8 A0 (in), 9 D0 (hiz), 10 D1 (hiz), 11 D2 (hiz), 12 GND (power) hidden to GND, 13 D3 (hiz), 14 D4 (hiz), 15 D5 (hiz), 16 D6 (hiz), 17 D7 (hiz), 18 ~{CE} (in), 19 A10 (in), 20 ~{OE} (in), 21 ~{WE} (in), 22 A9 (in), 23 A8 (in), 24 VCC (power) hidden to VCC

## 1609RR2
designator U?
Text Field1: 80; Text Field2: 180
pins: 1 RDY/~{B} (out), 2 A12 (in), 3 A7 (in), 4 A6 (in), 5 A5 (in), 6 A4 (in), 7 A3 (in), 8 A2 (in), 9 A1 (in), 10 A0 (in), 11 D0 (hiz), 12 D1 (hiz), 13 D2 (hiz), 14 GND (power) hidden to GND, 15 D3 (hiz), 16 D4 (hiz), 17 D5 (hiz), 18 D6 (hiz), 19 D7 (hiz), 20 ~{CE} (in), 21 A10 (in), 22 ~{OE} (in), 23 A11 (in), 24 A9 (in), 25 A8 (in), 27 ~{WE} (in), 28 VCC (power) hidden to VCC

## 1611RR1
designator U?
Text Field1: 60; Text Field2: 190
pins: 1 VPP (in), 2 A12 (in), 3 A7 (in), 4 A6 (in), 5 A5 (in), 6 A4 (in), 7 A3 (in), 8 A2 (in), 9 A1 (in), 10 A0 (in), 11 O0 (hiz), 12 O1 (hiz), 13 O2 (hiz), 14 GND (power) hidden to GND, 15 O3 (hiz), 16 O4 (hiz), 17 O5 (hiz), 18 O6 (hiz), 19 O7 (hiz), 20 CS (in), 21 A10 (in), 22 OE (in), 23 A11 (in), 24 A9 (in), 25 A8 (in), 27 ~{PGM} (in), 28 VCC

## 1801RR1
designator U?
Text Field1: 80; Text Field2: 170
pins: 1 ~{OE} (in), 2 ~{RPLY} (oc), 3 ~{CE} (in), 4 DO4 (hiz), 5 DO5 (hiz), 6 DO6 (hiz), 7 DO7 (hiz), 8 DO8 (hiz), 9 DO9 (hiz), 10 DO10 (hiz), 11 DO11 (hiz), 12 GND (power) hidden to GND, 13 DO3 (hiz), 14 DO2 (hiz), 15 DO1 (hiz), 16 DO0 (hiz), 17 DO12 (hiz), 18 DO13 (hiz), 19 DO14 (hiz), 20 DO15 (hiz), 21 VPP (in), 22 ~{PR} (in), 23 ~{CS} (in), 24 VCC (power) hidden to VCC

## 27010
designator U?
Text Field1: 60; Text Field2: 230
pins: 1 VPP (in), 2 A16 (in), 3 A15 (in), 4 A12 (in), 5 A7 (in), 6 A6 (in), 7 A5 (in), 8 A4 (in), 9 A3 (in), 10 A2 (in), 11 A1 (in), 12 A0 (in), 13 O0 (hiz), 14 O1 (hiz), 15 O2 (hiz), 16 GND (power) hidden to GND, 17 O3 (hiz), 18 O4 (hiz), 19 O5 (hiz), 20 O6 (hiz), 21 O7 (hiz), 22 ~{CE} (in), 23 A10 (in), 24 ~{OE} (in), 25 A11 (in), 26 A9 (in), 27 A8 (in), 28 A13 (in), 29 A14 (in), 31 ~{PGM} (in), 32 VCC (power) hidden to VCC

## 27512
designator U?
Text Field1: 60; Text Field2: 210
pins: 1 A15 (in), 2 A12 (in), 3 A7 (in), 4 A6 (in), 5 A5 (in), 6 A4 (in), 7 A3 (in), 8 A2 (in), 9 A1 (in), 10 A0 (in), 11 O0 (hiz), 12 O1 (hiz), 13 O2 (hiz), 14 GND (power) hidden to GND, 15 O3 (hiz), 16 O4 (hiz), 17 O5 (hiz), 18 O6 (hiz), 19 O7 (hiz), 20 ~{CE} (in), 21 A10 (in), 22 ~{OE} (in), 23 A11 (in), 24 A9 (in), 25 A8 (in), 26 A13 (in), 27 A14 (in), 28 VCC

## $
designator U?
Text Field1: 110; Text Field2: 50
text: KO3AK B.P.; CO AH; CCCP; TE; 35-98-56; 28-JAN-92

## E537RU10
designator U?
Text Field1: 60; Text Field2: 160
pins: 1 A3 (in), 2 A4 (in), 3 A5 (in), 4 A6 (in), 5 A7 (in), 6 A8 (in), 7 A9 (in), 8 A10 (in), 9 D0 (hiz), 10 D1 (hiz), 11 D2 (hiz), 12 GND (power) hidden to GND, 13 D3 (hiz), 14 D4 (hiz), 15 D5 (hiz), 16 D6 (hiz), 17 D7 (hiz), 18 ~{CE} (in), 19 A0 (in), 20 ~{OE} (in), 21 ~{WE} (in), 22 A1 (in), 23 A2 (in), 24 VAC (in)

## IS61WV6416DBLL
designator *
pins: 1, 2, 3, 4, 5, 6, 7, 8, 9, 10, 11, 12, 13, 14, 15, 16, 17, 18, 19, 20, 21, 22, 23, 24, 25, 26, 27, 28, 29, 30, 31, 32, 33, 34, 35, 36, 37, 38, 39, 40, 41, 42, 43, 44

## IS61WV6416DBLL_BGA
designator *
footprint TF-BGA 48L 6x8mm
part A pins: B1 I/O 8 (io), B6 I/O 0 (io), C1 I/O 9 (io), C2 I/O 10 (io), C5 I/O 1 (io), C6 I/O 2 (io), D2 I/O 11 (io), D5 I/O 3 (io), E2 I/O 12 (io), E5 I/O 4 (io), F1 I/O 14 (io), F2 I/O 13 (io), F5 I/O 5 (io), F6 I/O 6 (io), G1 I/O 15 (io), G6 I/O 7 (io)
part B pins: A3 A0 (in), A4 A1 (in), A5 A2 (in), B3 A3 (in), B4 A4 (in), C3 A5 (in), C4 A6 (in), D4 A7 (in), F3 A14 (in), F4 A15 (in), G3 A12 (in), G4 A13 (in), H2 A8 (in), H3 A9 (in), H4 A10 (in), H5 A11 (in)
part C pins: A1 LB, A2 OE, A6 NC, B2 UB, B5 CE, D1 GND (power), D3 NC, D6 VDD (power), E1 VDD (power), E3 NC, E4 NC, E6 GND (power), G2 NC (power), G5 WE (in), H1 NC, H6 NC

## PAL20L8
designator U?
Text Field1: 60; Text Field2: 150
pins: 1 I1 (in), 2 I2 (in), 3 I3 (in), 4 I4 (in), 5 I5 (in), 6 I6 (in), 7 I7 (in), 8 I8 (in), 9 I9 (in), 10 I10 (in), 11 I11 (in), 12 GND (power) hidden to GND, 13 I12 (in), 14 I13 (in), 15 O8 (out), 16 O7 (io), 17 O6 (io), 18 O5 (io), 19 O4 (io), 20 O3 (io), 21 O2 (io), 22 O1 (out), 23 I14 (in), 24 VCC (power) hidden to VCC

## PAL20R4
designator U?
Text Field1: 60; Text Field2: 160
pins: 1 CLK (in), 2 I1 (in), 3 I2 (in), 4 I3 (in), 5 I4 (in), 6 I5 (in), 7 I6 (in), 8 I7 (in), 9 I8 (in), 10 I9 (in), 11 I10 (in), 12 GND (power) hidden to GND, 13 ~{OE} (in), 14 I11 (in), 15 O8 (io), 16 O7 (io), 17 O6 (hiz), 18 O5 (hiz), 19 O4 (hiz), 20 O3 (hiz), 21 O2 (io), 22 O1 (io), 23 I12 (in), 24 VCC (power) hidden to VCC

## PAL20R6
designator U?
Text Field1: 60; Text Field2: 160
pins: 1 CLK (in), 2 I1 (in), 3 I2 (in), 4 I3 (in), 5 I4 (in), 6 I5 (in), 7 I6 (in), 8 I7 (in), 9 I8 (in), 10 I9 (in), 11 I10 (in), 12 GND (power) hidden to GND, 13 ~{OE} (in), 14 I11 (in), 15 O8 (io), 16 O7 (hiz), 17 O6 (hiz), 18 O5 (hiz), 19 O4 (hiz), 20 O3 (hiz), 21 O2 (hiz), 22 O1 (io), 23 I12 (in), 24 VCC (power) hidden to VCC

## PAL20R8
designator U?
Text Field1: 60; Text Field2: 150
pins: 1 CLK (in), 2 I1 (in), 3 I2 (in), 4 I3 (in), 5 I4 (in), 6 I5 (in), 7 I6 (in), 8 I7 (in), 9 I8 (in), 10 I9 (in), 11 I10 (in), 12 GND (power) hidden to GND, 13 ~{OE} (in), 14 I11 (in), 15 O8 (hiz), 16 O7 (hiz), 17 O6 (hiz), 18 O5 (hiz), 19 O4 (hiz), 20 O3 (hiz), 21 O2 (hiz), 22 O1 (hiz), 23 I12 (in), 24 VCC (power) hidden to VCC